# Altium footprint library Desafio_Hardware_Firmware_Nathania.PcbLib: 20 footprints (part 2 of 2)
Each footprint in its own frame and in the unit in brackets; x right, y up, seen from the top. Pads: shape width x height; smd on the part's side, far side on the other; paste and mask are expansions set on the pad; w line width, h text height; cw(c..) or ccw(c..) is an arc to the next point about the centre after c.
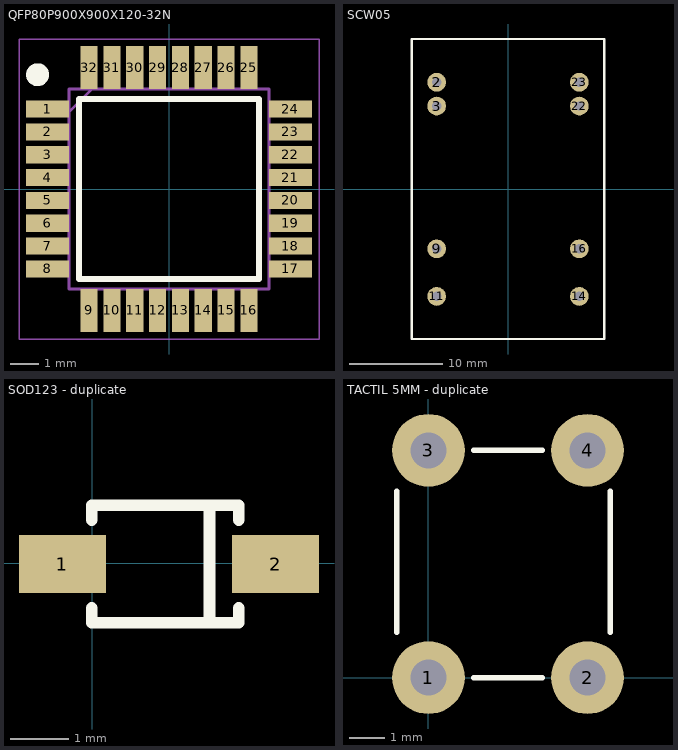
[diagram p1: the footprints below, top view; thin cyan lines are the x and y axes]

## QFP80P900X900X120-32N [mm]
pads (32):
  rect 1.5x0.6 smd: 1(-4.25,2.8) 2(-4.25,2) 3(-4.25,1.2) 4(-4.25,0.4) 5(-4.25,-0.4) 6(-4.25,-1.2) 7(-4.25,-2) 8(-4.25,-2.8) 17(4.25,-2.8) 18(4.25,-2) 19(4.25,-1.2) 20(4.25,-0.4) 21(4.25,0.4) 22(4.25,1.2) 23(4.25,2) 24(4.25,2.8)
  rect 0.6x1.5 smd: 9(-2.8,-4.25) 10(-2,-4.25) 11(-1.2,-4.25) 12(-0.4,-4.25) 13(0.4,-4.25) 14(1.2,-4.25) 15(2,-4.25) 16(2.8,-4.25) 25(2.8,4.25) 26(2,4.25) 27(1.2,4.25) 28(0.4,4.25) 29(-0.4,4.25) 30(-1.2,4.25) 31(-2,4.25) 32(-2.8,4.25)
Top Overlay:
  circle w0.4: c-4.6,4 r0.2
  lines w0.2: -3.15,-3.15 3.15,-3.15 3.15,3.15 -3.15,3.15 -3.15,-3.15
Mechanical 15:
  lines w0.1: -3.5,2.7 -2.7,3.5 ; -3.5,-3.5 3.5,-3.5 3.5,3.5 -3.5,3.5 -3.5,-3.5
Mechanical 20:
  lines w0.05: -5.25,-5.25 5.25,-5.25 5.25,5.25 -5.25,5.25 -5.25,-5.25

## SCW05 [mm]
pads (8):
  round 2 hole 1: 2(-7.62,11.44) 3(-7.62,8.9) 9(-7.62,-6.36) 11(-7.62,-11.44) 14(7.62,-11.44) 16(7.62,-6.36) 22(7.62,8.9) 23(7.62,11.44)
Top Overlay:
  lines w0.254: -10.287,-15.992 10.287,-15.992 10.287,16.063 -10.287,16.063 -10.287,-15.992
3D body "User Library-SCW05A.step": height 12.01, standoff -4.01, extent -10.15,-15.89 10.15,15.91

## SOD123 - duplicate [mm]
pads (2):
  rect 1.5x1 smd: 1(-0.512,-0.017) 2(3.171,-0.017)
Top Overlay:
  lines w0.203: -0.004,-0.779 -0.004,-1.033 2.536,-1.033 2.536,-0.779 ; -0.004,0.745 -0.004,0.999 2.536,0.999 2.536,0.745 ; 2.028,-1.033 2.028,0.999
3D body "CircuitWorks-SOD123.step": height 1.27, standoff 0, extent -0.58,-0.8 3.12,0.8

## TACTIL 5MM - duplicate [mil]
height 39.37
pads (4):
  round 80 hole 39.37: 1(0,0) 2(175,0) 3(0,250) 4(175,250)
Top Overlay:
  lines w6: -35,50 -35,205 ; 50,0 125,0 ; 50,250 125,250 ; 200,50 200,205
3D body "User Library-Tactile switch 6x6x5mm.step": height 197.24, standoff -138.19, extent -34.69,-35.41 202.71,269.43